# EAGLE library part AT25M01-SHM (library ICs)
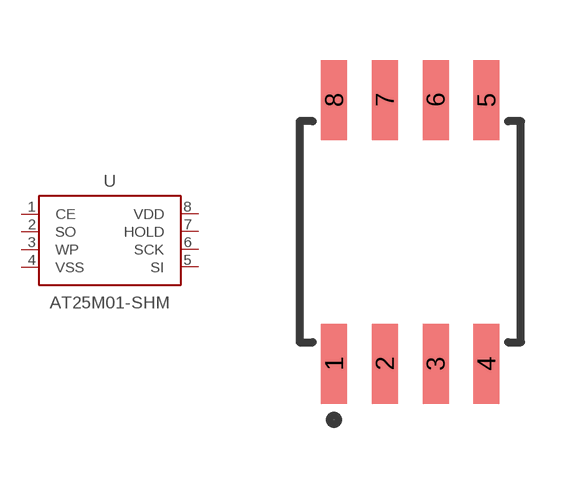
[diagram p29: symbol with the pads of SOIJ-8; footprint SOIJ-8]

Designator prefix U

## AT25M01-SHM  [SOIJ-8]
1  CE
2  SO
3  WP
4  VSS  pwr
5  SI
6  SCK
7  HOLD
8  VDD  pwr

## Footprint SOIJ-8 (pad centres in mm)
8-Pin SOIC 208-mil
smd 0.65 x 2: 1 -1.905,-3.3; 2 -0.635,-3.3; 3 0.635,-3.3; 4 1.905,-3.3; 5 1.905,3.3; 6 0.635,3.3; 7 -0.635,3.3; 8 -1.905,3.3